# EAGLE library part SQT-110-01-L-D (library SQT-110-01-L-D)
Position per row, Receptacle Connector 0.079" (2.00mm) Through Hole Gold, row height-6.65 Source: Datasheet <https://suddendocs.samtec.com/prints/sqt-1xx-xx-xxx-x-xxx-xxx-mkt.pdf>
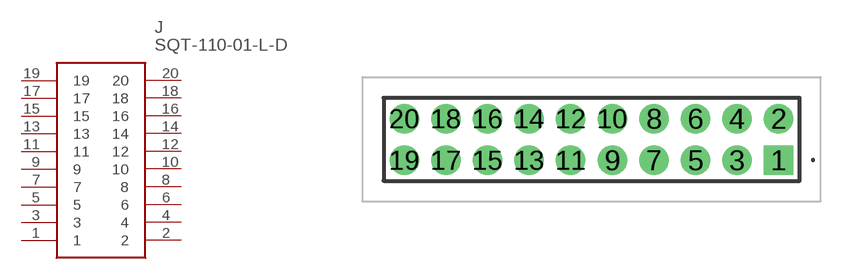
[diagram p0: symbol with the pads of SQT11001LD; footprint SQT11001LD]

Designator prefix J

## SQT-110-01-L-D (Description: Position per row, Receptacle Connector 0.079" (2.00mm) Through Hole Gold, row height-6.65; Height: 6.65mm; Manufacturer_Name: SAMTEC; Manufacturer_Part_Number: SQT-110-01-L-D; Mouser_Part_Number: 200-SQT11001LD; Mouser_Price-Stock: https://www.mouser.co.uk/ProductDetail/Samtec/SQT-110-01-L-D?qs=FESYatJ8odJGRXnwU%2FSPUg%3D%3D)  [SQT11001LD]
1  1
2  2
3  3
4  4
5  5
6  6
7  7
8  8
9  9
10  10
11  11
12  12
13  13
14  14
15  15
16  16
17  17
18  18
19  19
20  20

## Footprint SQT11001LD (pad centres in mm)
SQT-110-01-L-D-11
drill 0.91 pad 1.416 square: 1 0,0
drill 0.91 pad 1.416: 2 0,2; 3 -2,0; 4 -2,2; 5 -4,0; 6 -4,2; 7 -6,0; 8 -6,2; 9 -8,0; 10 -8,2; 11 -10,0; 12 -10,2; 13 -12,0; 14 -12,2; 15 -14,0; 16 -14,2; 17 -16,0; 18 -16,2; 19 -18,0; 20 -18,2